# Altium footprint library A3967SLB.PcbLib: 1 footprints
Each footprint in its own frame and in the unit in brackets; x right, y up, seen from the top. Pads: shape width x height; smd on the part's side, far side on the other; paste and mask are expansions set on the pad; w line width, h text height; cw(c..) or ccw(c..) is an arc to the next point about the centre after c.
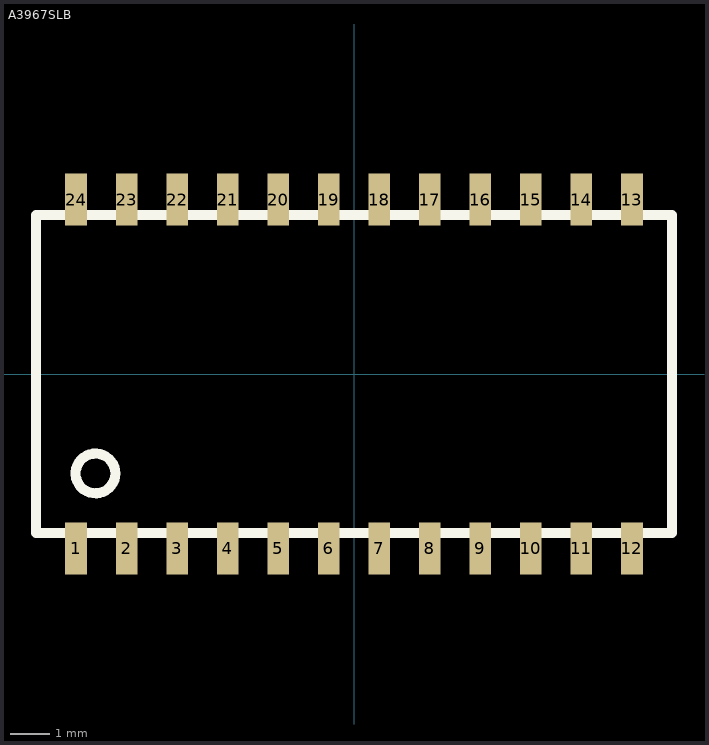
[diagram p0: the footprint, top view; thin cyan lines are the x and y axes]

## A3967SLB [mm]
pads (24):
  rect 0.55x1.3 smd: 1(-6.985,-4.385) 2(-5.715,-4.385) 3(-4.445,-4.385) 4(-3.175,-4.385) 5(-1.905,-4.385) 6(-0.635,-4.385) 7(0.635,-4.385) 8(1.905,-4.385) 9(3.175,-4.385) 10(4.445,-4.385) 11(5.715,-4.385) 12(6.985,-4.385) 13(6.985,4.385) 14(5.715,4.385) 15(4.445,4.385) 16(3.175,4.385) 17(1.905,4.385) 18(0.635,4.385) 19(-0.635,4.385) 20(-1.905,4.385) 21(-3.175,4.385) 22(-4.445,4.385) 23(-5.715,4.385) 24(-6.985,4.385)
Top Overlay:
  circle w0.254: c-6.5,-2.5 r0.5
  lines w0.254: -8,-4 8,-4 8,4 -8,4 -8,-4